# Altium schematic symbol library SamacSys.SchLib: 13 symbols
Pins are listed as number, name and electrical type; pins without a type are passive.

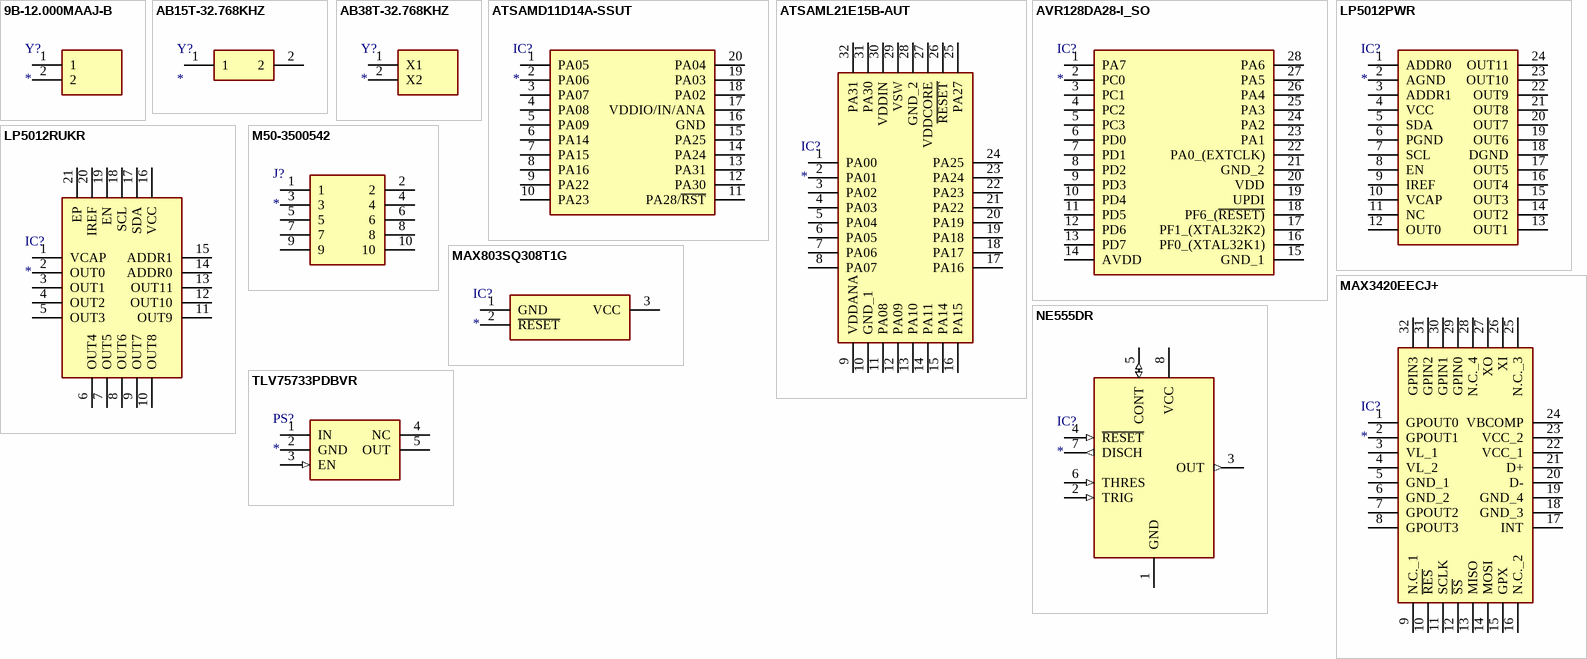
[diagram p0: symbols 9B-12.000MAAJ-B to TLV75733PDBVR]

## 9B-12.000MAAJ-B
designator Y?
Crystal or Oscillator; Manufacturer_Name: TXC; Manufacturer_Part_Number: 9B-12.000MAAJ-B; Datasheet Link: https://componentsearchengine.com/Datasheets/2/9B-12.000MAAJ-B.pdf; Height: 3.68mm; Mouser Part Number: 717-9B-12.000MAAJ-B; Mouser Price/Stock: https://www.mouser.co.uk/ProductDetail/TXC-Corporation/9B-12000MAAJ-B?qs=65dIHZNch5trLKZkRFdipQ%3D%3D
footprint 9B12000MAAJB
pins: 1, 2

## AB15T-32.768KHZ
designator Y?
Crystal or Oscillator; Manufacturer_Name: ABRACON; Manufacturer_Part_Number: AB15T-32.768KHZ; Datasheet Link: https://abracon.com/Resonators/AB15T.pdf; Height: 5.1mm; Mouser Part Number: 815-AB15T-32.768KHZ; Mouser Price/Stock: https://www.mouser.co.uk/ProductDetail/ABRACON/AB15T-32768KHZ?qs=A7YjigRBFZlcX2Ny5vfBpg%3D%3D; Arrow Part Number: AB15T-32.768KHZ; Arrow Price/Stock: https://www.arrow.com/en/products/ab15t-32.768khz/abracon
footprint AB15T32768KHZ
pins: 1, 2

## AB38T-32.768KHZ
designator Y?
Crystal or Oscillator; Manufacturer_Name: ABRACON; Manufacturer_Part_Number: AB38T-32.768KHZ; Datasheet Link: http://www.abracon.com/Resonators/AB38T.pdf; Height: 8.3mm; Mouser Part Number: 815-AB38T-32.768KHZ; Mouser Price/Stock: https://www.mouser.co.uk/ProductDetail/ABRACON/AB38T-32768KHZ/?qs=m%252BUhWDcpCfbdp9ovMbeW3g%3D%3D; Arrow Part Number: AB38T-32.768KHZ; Arrow Price/Stock: https://www.arrow.com/en/products/ab38t-32.768khz/abracon
footprint AB38T32768KHZ
pins: 1 X1, 2 X2

## ATSAMD11D14A-SSUT
designator IC?
Integrated Circuit; Manufacturer_Name: Microchip; Manufacturer_Part_Number: ATSAMD11D14A-SSUT; Datasheet Link: http://ww1.microchip.com/downloads/en/devicedoc/atmel-42363-sam-d11_datasheet.pdf; Height: 2.65mm; Mouser Part Number: 556-ATSAMD11D14ASSUT; Mouser Price/Stock: https://www.mouser.co.uk/ProductDetail/Microchip-Technology-Atmel/ATSAMD11D14A-SSUT/?qs=lrqjml%252Bjt8f8EFewxXrzCw%3D%3D; Arrow Part Number: ATSAMD11D14A-SSUT; Arrow Price/Stock: https://www.arrow.com/en/products/atsamd11d14a-ssut/microchip-technology
footprint SOIC127P1032X265-20N
pins: 1 PA05, 2 PA06, 3 PA07, 4 PA08, 5 PA09, 6 PA14, 7 PA15, 8 PA16, 9 PA22, 10 PA23, 11 PA28/~{RST}, 12 PA30, 13 PA31, 14 PA24, 15 PA25, 16 GND, 17 VDDIO/IN/ANA, 18 PA02, 19 PA03, 20 PA04

## ATSAML21E15B-AUT
designator IC?
Integrated Circuit; Manufacturer_Name: Microchip; Manufacturer_Part_Number: ATSAML21E15B-AUT; Datasheet Link: http://ww1.microchip.com/downloads/en/DeviceDoc/60001477A.pdf; Height: 1.2mm; Mouser Part Number: 556-ATSAML21E15B-AUT; Mouser Price/Stock: https://www.mouser.co.uk/ProductDetail/Microchip-Technology-Atmel/ATSAML21E15B-AUT?qs=RCSZh%2F2c5ncSVXaVvNGHcg%3D%3D; Arrow Part Number: ATSAML21E15B-AUT; Arrow Price/Stock: https://www.arrow.com/en/products/atsaml21e15b-aut/microchip-technology
footprint QFP80P900X900X120-32N
pins: 1 PA00, 2 PA01, 3 PA02, 4 PA03, 5 PA04, 6 PA05, 7 PA06, 8 PA07, 9 VDDANA, 10 GND_1, 11 PA08, 12 PA09, 13 PA10, 14 PA11, 15 PA14, 16 PA15, 17 PA16, 18 PA17, 19 PA18, 20 PA19, 21 PA22, 22 PA23, 23 PA24, 24 PA25, 25 PA27, 26 ~{RESET}, 27 VDDCORE, 28 GND_2, 29 VSW, 30 VDDIN, 31 PA30, 32 PA31

## AVR128DA28-I_SO
designator IC?
Integrated Circuit; Manufacturer_Name: Microchip; Manufacturer_Part_Number: AVR128DA28-I/SO; Datasheet Link: https://componentsearchengine.com/Datasheets/2/AVR128DA28-I_SO.pdf; Height: 2.65mm; Mouser Part Number: 579-AVR128DA28-I/SO; Mouser Price/Stock: https://www.mouser.co.uk/ProductDetail/Microchip-Technology/AVR128DA28-I-SO?qs=xZ%2FP%252Ba9zWqZ3NQP19LtSGg%3D%3D; Arrow Part Number: AVR128DA28-I/SO; Arrow Price/Stock: https://www.arrow.com/en/products/avr128da28-iso/microchip-technology
footprint SOIC127P1030X265-28N
pins: 1 PA7, 2 PC0, 3 PC1, 4 PC2, 5 PC3, 6 PD0, 7 PD1, 8 PD2, 9 PD3, 10 PD4, 11 PD5, 12 PD6, 13 PD7, 14 AVDD, 15 GND_1, 16 PF0_(XTAL32K1), 17 PF1_(XTAL32K2), 18 PF6_(~{RESET)}, 19 UPDI, 20 VDD, 21 GND_2, 22 PA0_(EXTCLK), 23 PA1, 24 PA2, 25 PA3, 26 PA4, 27 PA5, 28 PA6

## LP5012PWR
designator IC?
Integrated Circuit; Manufacturer_Name: Texas Instruments; Manufacturer_Part_Number: LP5012PWR; Datasheet Link: https://www.ti.com/lit/ds/symlink/lp5012.pdf?ts=1615929314042&ref_url=https%253A%252F%252Fwww.mouser.co.uk%252F; Height: 1.2mm; Mouser Part Number: 595-LP5012PWR; Mouser Price/Stock: https://www.mouser.co.uk/ProductDetail/Texas-Instruments/LP5012PWR/?qs=T94vaHKWudSL6jLwBy12Hg%3D%3D
footprint SOP65P640X120-24N
pins: 1 ADDR0, 2 AGND, 3 ADDR1, 4 VCC, 5 SDA, 6 PGND, 7 SCL, 8 EN, 9 IREF, 10 VCAP, 11 NC, 12 OUT0, 13 OUT1, 14 OUT2, 15 OUT3, 16 OUT4, 17 OUT5, 18 DGND, 19 OUT6, 20 OUT7, 21 OUT8, 22 OUT9, 23 OUT10, 24 OUT11

## LP5012RUKR
designator IC?
Integrated Circuit; Manufacturer_Name: Texas Instruments; Manufacturer_Part_Number: LP5012RUKR; Datasheet Link: http://www.ti.com/lit/gpn/LP5012; Height: 0.8mm; Mouser Part Number: 595-LP5012RUKR; Mouser Price/Stock: https://www.mouser.co.uk/ProductDetail/Texas-Instruments/LP5012RUKR/?qs=mAH9sUMRCts7Z0PlkfxWfA%3D%3D; Arrow Part Number: LP5012RUKR; Arrow Price/Stock: https://www.arrow.com/en/products/lp5012rukr/texas-instruments
footprint QFN40P300X300X80-21N-D
pins: 1 VCAP, 2 OUT0, 3 OUT1, 4 OUT2, 5 OUT3, 6 OUT4, 7 OUT5, 8 OUT6, 9 OUT7, 10 OUT8, 11 OUT9, 12 OUT10, 13 OUT11, 14 ADDR0, 15 ADDR1, 16 VCC, 17 SDA, 18 SCL, 19 EN, 20 IREF, 21 EP

## M50-3500542
designator J?
Connector; Manufacturer_Name: Harwin; Manufacturer_Part_Number: M50-3500542; Datasheet Link: http://docs-emea.rs-online.com/webdocs/13d4/0900766b813d4011.pdf; Height: 4.15mm; Mouser Part Number: 855-M50-3500542; Mouser Price/Stock: https://www.mouser.co.uk/ProductDetail/Harwin/M50-3500542?qs=9fQaSFfsqsyXI0P9tFOVoQ%3D%3D
footprint M503500542
pins: 1, 2, 3, 4, 5, 6, 7, 8, 9, 10

## MAX803SQ308T1G
designator IC?
Integrated Circuit; Manufacturer_Name: ON Semiconductor; Manufacturer_Part_Number: MAX803SQ308T1G; Datasheet Link: http://www.onsemi.com/pub/Collateral/MAX803-D.PDF; Height: 1mm; Mouser Part Number: 863-MAX803SQ308T1G; Mouser Price/Stock: https://www.mouser.co.uk/ProductDetail/ON-Semiconductor/MAX803SQ308T1G?qs=aSUclzrs14xj4ys5ck7Tew%3D%3D; Arrow Part Number: MAX803SQ308T1G; Arrow Price/Stock: https://www.arrow.com/en/products/max803sq308t1g/on-semiconductor
footprint SOT65P220X100-3N
pins: 1 GND (power), 2 ~{RESET}, 3 VCC (power)

## MAX3420EECJ+
designator IC?
Integrated Circuit; Manufacturer_Name: Maxim Integrated; Manufacturer_Part_Number: MAX3420EECJ+; Datasheet Link: https://pdfserv.maximintegrated.com/en/ds/MAX3420E.pdf; Height: 1.6mm; Mouser Part Number: 700-MAX3420EECJ; Mouser Price/Stock: https://www.mouser.co.uk/ProductDetail/Maxim-Integrated/MAX3420EECJ%2b/?qs=1THa7WoU59F45gydMDQ7mg%3D%3D
footprint QFP80P900X900X160-32N
pins: 1 GPOUT0, 2 GPOUT1, 3 VL_1, 4 VL_2, 5 GND_1, 6 GND_2, 7 GPOUT2, 8 GPOUT3, 9 N.C._1, 10 ~{RES}, 11 SCLK, 12 ~{SS}, 13 MISO, 14 MOSI, 15 GPX, 16 N.C._2, 17 INT, 18 GND_3, 19 GND_4, 20 D-, 21 D+, 22 VCC_1, 23 VCC_2, 24 VBCOMP, 25 N.C._3, 26 XI, 27 XO, 28 N.C._4, 29 GPIN0, 30 GPIN1, 31 GPIN2, 32 GPIN3

## NE555DR
designator IC?
Integrated Circuit; Manufacturer_Name: Texas Instruments; Manufacturer_Part_Number: NE555DR; Datasheet Link: http://www.ti.com/lit/ds/symlink/ne555.pdf; Height: 1.75mm; Mouser Part Number: 595-NE555DR; Mouser Price/Stock: https://www.mouser.com/Search/Refine.aspx?Keyword=595-NE555DR; RS Part Number: 1218414; RS Price/Stock: http://uk.rs-online.com/web/p/products/1218414
footprint SOIC127P600X175-8N
pins: 1 GND (power), 2 TRIG (in), 3 OUT (out), 4 ~{RESET} (in), 5 CONT (io), 6 THRES (in), 7 DISCH (out), 8 VCC (power)

## TLV75733PDBVR
designator PS?
Power Supply; Manufacturer_Name: Texas Instruments; Manufacturer_Part_Number: TLV75733PDBVR; Datasheet Link: http://www.ti.com/lit/gpn/tlv757p; Height: 1.45mm; Mouser Part Number: 595-TLV75733PDBVR; Mouser Price/Stock: https://www.mouser.co.uk/ProductDetail/Texas-Instruments/TLV75733PDBVR/?qs=y6ZabgHbY%252BwAAzSntTW34w%3D%3D; Arrow Part Number: TLV75733PDBVR; Arrow Price/Stock: https://www.arrow.com/en/products/tlv75733pdbvr/texas-instruments
footprint SOT95P280X145-5N
pins: 1 IN (power), 2 GND (power), 3 EN (in), 4 NC, 5 OUT (power)